# EAGLE library part OG-ADC_MCP3302 (library braids_v50)
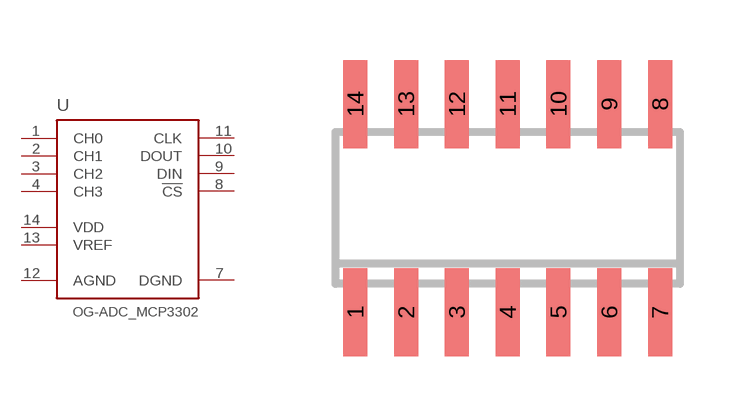
[diagram p4: symbol with the pads of OG-ADC_SO14; footprint OG-ADC_SO14]

Designator prefix -

## OG-ADC_MCP3302  [OG-ADC_SO14]
1  CH0
2  CH1
3  CH2
4  CH3
7  DGND
8  !CS
9  DIN
10  DOUT
11  CLK
12  AGND
13  VREF
14  VDD

## Footprint OG-ADC_SO14 (pad centres in mm)
Small Outline Package 14
smd 0.6 x 2.2: 1 -3.81,-2.6; 2 -2.54,-2.6; 3 -1.27,-2.6; 4 0,-2.6; 5 1.27,-2.6; 6 2.54,-2.6; 7 3.81,-2.6; 8 3.81,2.6; 9 2.54,2.6; 10 1.27,2.6; 11 0,2.6; 12 -1.27,2.6; 13 -2.54,2.6; 14 -3.81,2.6